# Altium schematic symbol library PWR163S.Schlib: 1 symbol
Pins are listed as number, name and electrical type; pins without a type are passive.

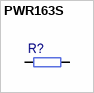
[diagram p0: symbol PWR163S]

## PWR163S
designator R?, comment R  (value not drawn)
pins: 1, 3
1 alternate drawing of the same symbol